# Altium schematic symbol library 74LVC1G14.SchLib: 1 symbol
Pins are listed as number, name and electrical type; pins without a type are passive.

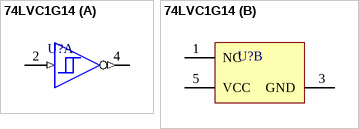
[diagram p0: symbol 74LVC1G14]

## 74LVC1G14
designator U?  (value not drawn)
footprint SOT23-5_L
footprint SOT23-5_M
footprint SOT23-5_N
part A pins: 2 A (in) "Input A", 4 Y (out) "Output Y"
part B pins: 1 NC "Ground", 3 GND (power) "Ground Pin", 5 VCC (power) "Power Pin"